# EAGLE library part HC12 (library motion_detect_masterlib)
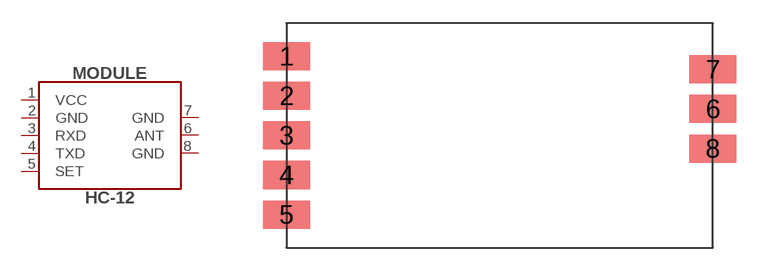
[diagram p2: symbol with the pads of HC-12; footprint HC-12]

Designator prefix MODULE

## HC12  [HC-12]
1  VCC
2  GND  pwr
3  RXD  in
4  TXD  out
5  SET  in
6  ANT
7  GND  pwr
8  GND  pwr

## Footprint HC-12 (pad centres in mm)
smd 3 x 1.8: 1 -13.7,5.08; 2 -13.7,2.54; 3 -13.7,0; 4 -13.7,-2.54; 5 -13.7,-5.08; 6 13.7,1.7; 7 13.7,4.24; 8 13.7,-0.84